# Altium schematic symbol library CAP_NP.SchLib: 1 symbol
Pins are listed as number, name and electrical type; pins without a type are passive.

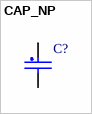
[diagram p0: symbol CAP_NP]

## CAP_NP
designator C?
CAP CER 4.7PF 50V 0.5pF C0G 0402
pins: 1, 2